# Altium schematic symbol library Stamp.SchLib: 22 symbols
Pins are listed as number, name and electrical type; pins without a type are passive.

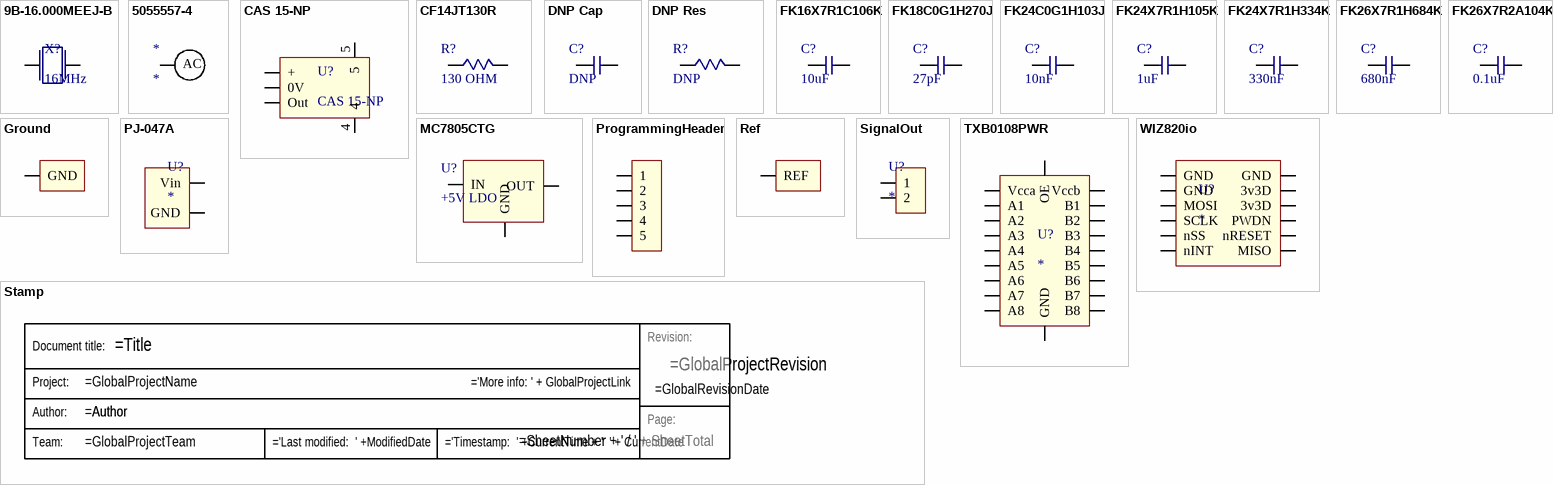
[diagram p0: symbols 9B-16.000MEEJ-B to WIZ820io]

## 9B-16.000MEEJ-B
designator X?, comment 16MHz
CRYSTAL 16MHZ 18PF THRU; Manufacturer: TXC CORPORATION; Manufacturer Part Number: 9B-16.000MEEJ-B; Frequency Stability: ±10ppm; ESR (Equivalent Series Resistance): 30 Ohm; Operating Mode: Fundamental; Supplier 1: Digi-Key; RoHS: RoHS Compliant; Category: Crystals and Oscillators; Stock 1: 1815; Pricing 1: 1=0.48, 10=0.4, 50=0.36, 100=0.32, 500=0.304, 1000=0.256, 2500=0.24, 5000=0.232, 10000=0.224 (USD); Packaging: Bulk; Type: MHz Crystal; Frequency: 16MHz; Frequency Tolerance: ±10ppm; Load Capacitance: 18pF; Operating Temperature: -20°C ~ 70°C; Ratings: -; Mounting Type: Through Hole; Package / Case: HC49/US; Size / Dimension: 0.453" L x 0.197" W (11.50mm x 5.00mm); Height: 0.145" (3.68mm); ComponentLink1URL: http://www.txccrystal.com/images/pdf/9b-accuracy.pdf; ComponentLink1Description: http://www.txccrystal.com/images/pdf/9b-accuracy.pdf; Supplier Part Number 1: 887-1244-ND
footprint 9B-16.000MEEJ-B
pins: 1, 2

## 5055557-4
designator *
POWER TAP ASSY 10POS .100 VERT; Manufacturer: TE Connectivity; Manufacturer Part Number: 5055557-4; Screw Size: 6-32; Current Rating: 25A; Material - Insulation: Polyamide (PA), Nylon; Screw Material: Steel; Supplier 1: Digi-Key; RoHS: RoHS Compliant; Category: Connectors, Interconnects; Stock 1: 1257; Pricing 1: 1=4.55, 10=4.364, 25=4.0004, 50=3.8188, 100=3.6369, 250=3.18228, 500=3.09134, 1000=2.63674, 2500=2.4549 (USD); Terminal Type: Screw Terminal, Power Tap; Termination: Press-Fit; Number of Pins: 10; Mounting Type: Through Hole; Features: Cover; Contact Finish: Tin; Contact Material: Copper Alloy; Screw Finish: -; ComponentLink1URL: http://www.te.com/commerce/DocumentDelivery/DDEController?Action=srchrtrv&DocNm=5055557&DocType=Customer+Drawing&DocLang=English; ComponentLink1Description: http://www.te.com/commerce/DocumentDelivery/DDEController?Action=srchrtrv&DocNm=5055557&DocType=Customer+Drawing&DocLang=English; Supplier Part Number 1: 5055557-4-ND
pins: 1
text: AC

## CAS 15-NP
designator U?
SENSOR CURRENT 15A 5V MOD; Manufacturer: LEM USA Inc; For Measuring: AC/DC; Sensor Type: Flux Gate, Closed Loop; Number of Channels: 1; Output: Ratiometric, Voltage; Sensitivity: 41.67mV/A; Frequency: 300kHz; Linearity: ±1%; Accuracy: ±0.8%; Voltage - Supply: 4.75 V ~ 5.25 V; Response Time: 0.3µs; Current - Supply (Max): 20mA; Polarization: Bidirectional; Supplier 1: Digi-Key; Manufacturer Part Number: CAS 15-NP; RoHS: RoHS Compliant; Category: Sensors, Transducers; Stock 1: 339; Pricing 1: 1=21.44, 5=21, 10=17.5, 25=16.1876, 50=15.75, 100=13.5625, 250=13.125, 500=12.6875, 1000=12.03125 (USD); Packaging: Tube; Current - Sensing: 15A; Operating Temperature: -40°C ~ 85°C; Mounting Type: Through Hole; Package / Case: Module; ComponentLink1URL: http://www.lem.com/docs/products/cas%20series.pdf; ComponentLink1Description: http://www.lem.com/docs/products/cas%20series.pdf; Supplier Part Number 1: 398-1088-5-ND
footprint CAS 15-NP
pins: 1 +, 2 0V, 3 Out, 4, 5

## CF14JT130R
designator R?, comment 130 OHM
RES 130 OHM 1/4W 5% CARBON FILM; Manufacturer: Stackpole Electronics Inc; Manufacturer Part Number: CF14JT130R; Resistance (Ohms): 130; Power (Watts): 0.25W, 1/4W; Temperature Coefficient: 0/ -400ppm/°C; Supplier 1: Digi-Key; RoHS: RoHS Compliant; Category: Resistors; Stock 1: 17308; Pricing 1: 1=0.1, 10=0.053, 50=0.0288, 100=0.0219, 250=0.01624, 500=0.012, 1000=0.008, 2500=0.00675 (USD); Packaging: Cut Tape (CT); Tolerance: ±5%; Composition: Carbon Film; Features: Flame Retardant Coating, Moisture Resistant; Operating Temperature: -55°C ~ 155°C; Package / Case: Axial; Supplier Device Package: Axial; Size / Dimension: 0.091" Dia x 0.256" L (2.30mm x 6.50mm); Height: -; Number of Terminations: 2; ComponentLink1URL: http://www.seielect.com/catalog/SEI-CF_CFM.pdf; ComponentLink1Description: http://www.seielect.com/catalog/SEI-CF_CFM.pdf; Supplier Part Number 1: CF14JT130RCT-ND
footprint Axial 0.5
pins: 1, 2

## DNP Cap
designator C?, comment DNP
footprint FK26/16 Capacitor
pins: 1, 2

## DNP Res
designator R?, comment DNP
footprint Axial 0.5
pins: 1, 2

## FK16X7R1C106K
designator C?, comment 10uF
CAP CER 10UF 16V 10% RADIAL; Manufacturer: TDK Corporation; Manufacturer Part Number: FK16X7R1C106K; Capacitance: 10µF; Temperature Coefficient: X7R; Supplier 1: Digi-Key; RoHS: RoHS Compliant; Category: Capacitors; Stock 1: 9327; Pricing 1: 1=0.46, 10=0.325, 100=0.2142, 250=0.18248, 500=0.15868, 1000=0.13223, 5000=0.11667, 10000=0.10889, 25000=0.105 (USD); Packaging: Bulk; Tolerance: ±10%; Voltage - Rated: 16V; Mounting Type: Through Hole; Operating Temperature: -55°C ~ 125°C; Applications: General Purpose; Ratings: -; Package / Case: Radial; Size / Dimension: 0.217" L x 0.138" W (5.50mm x 3.50mm); Height - Seated (Max): 0.236" (6.00mm); Thickness (Max): -; Lead Spacing: 0.098" (2.50mm); Features: -; Lead Style: Formed Leads - Kinked; ComponentLink1URL: http://product.tdk.com/capacitor/leadmlcc/en/documents/leadmlcc_commercial_general_en.pdf; ComponentLink1Description: http://product.tdk.com/capacitor/leadmlcc/en/documents/leadmlcc_commercial_general_en.pdf; Supplier Part Number 1: 445-8348-ND
footprint FK26/16 Capacitor
pins: 1, 2

## FK18C0G1H270J
designator C?, comment 27pF
CAP CER 27PF 50V 5% RADIAL; Manufacturer: TDK Corporation; Manufacturer Part Number: FK18C0G1H270J; Temperature Coefficient: C0G, NP0; Supplier 1: Digi-Key; RoHS: RoHS Compliant; Category: Capacitors; Stock 1: 2293; Pricing 1: 1=0.29, 10=0.2, 100=0.1133, 250=0.09, 500=0.08, 1000=0.06999, 5000=0.06166, 10000=0.05833, 25000=0.05333 (USD); Packaging: Bulk; Capacitance: 27pF; Tolerance: ±5%; Voltage - Rated: 50V; Mounting Type: Through Hole; Operating Temperature: -55°C ~ 125°C; Applications: General Purpose; Ratings: -; Package / Case: Radial; Size / Dimension: 0.157" L x 0.098" W (4.00mm x 2.50mm); Height - Seated (Max): 0.217" (5.50mm); Thickness (Max): -; Lead Spacing: 0.098" (2.50mm); Features: -; Lead Style: Formed Leads - Kinked; ComponentLink1URL: http://product.tdk.com/capacitor/leadmlcc/en/documents/leadmlcc_commercial_general_en.pdf; ComponentLink1Description: http://product.tdk.com/capacitor/leadmlcc/en/documents/leadmlcc_commercial_general_en.pdf; Supplier Part Number 1: 445-4764-ND
footprint FK18/24 Capacitor
pins: 1, 2

## FK24C0G1H103J
designator C?, comment 10nF
CAP CER 10000PF 50V 5% RADIAL; Manufacturer: TDK Corporation; Manufacturer Part Number: FK24C0G1H103J; Temperature Coefficient: C0G, NP0; Supplier 1: Digi-Key; RoHS: RoHS Compliant; Category: Capacitors; Stock 1: 37796; Pricing 1: 1=0.41, 10=0.283, 100=0.17, 250=0.14168, 500=0.12752, 1000=0.10556, 5000=0.09445, 10000=0.0889, 25000=0.08334 (USD); Packaging: Bulk; Capacitance: 10000pF; Tolerance: ±5%; Voltage - Rated: 50V; Mounting Type: Through Hole; Operating Temperature: -55°C ~ 125°C; Applications: General Purpose; Ratings: -; Package / Case: Radial; Size / Dimension: 0.217" L x 0.177" W (5.50mm x 4.50mm); Height - Seated (Max): 0.217" (5.50mm); Thickness (Max): -; Lead Spacing: 0.197" (5.00mm); Features: -; Lead Style: Formed Leads - Kinked; ComponentLink1URL: http://product.tdk.com/capacitor/leadmlcc/en/documents/leadmlcc_commercial_general_en.pdf; ComponentLink1Description: http://product.tdk.com/capacitor/leadmlcc/en/documents/leadmlcc_commercial_general_en.pdf; Supplier Part Number 1: 445-4750-ND
footprint FK18/24 Capacitor
pins: 1, 2

## FK24X7R1H105K
designator C?, comment 1uF
CAP CER 1UF 50V 10% RADIAL; Manufacturer: TDK Corporation; Manufacturer Part Number: FK24X7R1H105K; Capacitance: 1µF; Temperature Coefficient: X7R; Supplier 1: Digi-Key; RoHS: RoHS Compliant; Category: Capacitors; Stock 1: 21684; Pricing 1: 1=0.4, 10=0.278, 100=0.1667, 250=0.13892, 500=0.12502, 1000=0.10556, 5000=0.09445, 10000=0.0889, 25000=0.08334 (USD); Packaging: Bulk; Tolerance: ±10%; Voltage - Rated: 50V; Mounting Type: Through Hole; Operating Temperature: -55°C ~ 125°C; Applications: General Purpose; Ratings: -; Package / Case: Radial; Size / Dimension: 0.177" L x 0.098" W (4.50mm x 2.50mm); Height - Seated (Max): 0.217" (5.50mm); Thickness (Max): -; Lead Spacing: 0.197" (5.00mm); Features: -; Lead Style: Formed Leads - Kinked; ComponentLink1URL: http://product.tdk.com/capacitor/leadmlcc/en/documents/leadmlcc_commercial_general_en.pdf; ComponentLink1Description: http://product.tdk.com/capacitor/leadmlcc/en/documents/leadmlcc_commercial_general_en.pdf; Supplier Part Number 1: 445-8517-ND
footprint FK18/24 Capacitor
pins: 1, 2

## FK24X7R1H334K
designator C?, comment 330nF
CAP CER 0.33UF 50V 10% RADIAL; Manufacturer: TDK Corporation; Manufacturer Part Number: FK24X7R1H334K; Capacitance: 0.33µF; Temperature Coefficient: X7R; Supplier 1: Digi-Key; RoHS: RoHS Compliant; Category: Capacitors; Stock 1: 7845; Pricing 1: 1=0.32, 10=0.222, 100=0.1333, 250=0.11112, 500=0.1, 1000=0.08444, 5000=0.07555, 10000=0.0711, 25000=0.06666 (USD); Packaging: Bulk; Tolerance: ±10%; Voltage - Rated: 50V; Mounting Type: Through Hole; Operating Temperature: -55°C ~ 125°C; Applications: General Purpose; Ratings: -; Package / Case: Radial; Size / Dimension: 0.217" L x 0.177" W (5.50mm x 4.50mm); Height - Seated (Max): 0.217" (5.50mm); Thickness (Max): -; Lead Spacing: 0.197" (5.00mm); Features: -; Lead Style: Formed Leads - Kinked; ComponentLink1URL: http://product.tdk.com/capacitor/leadmlcc/en/documents/leadmlcc_commercial_general_en.pdf; ComponentLink1Description: http://product.tdk.com/capacitor/leadmlcc/en/documents/leadmlcc_commercial_general_en.pdf; Supplier Part Number 1: 445-5263-ND
footprint FK18/24 Capacitor
pins: 1, 2

## FK26X7R1H684K
designator C?, comment 680nF
CAP CER 0.68UF 50V 10% RADIAL; Manufacturer: TDK Corporation; Manufacturer Part Number: FK26X7R1H684K; Capacitance: 0.68µF; Temperature Coefficient: X7R; Supplier 1: Digi-Key; RoHS: RoHS Compliant; Category: Capacitors; Stock 1: 1174; Pricing 1: 1=0.45, 10=0.312, 100=0.187, 250=0.15584, 500=0.14024, 1000=0.11611, 5000=0.10389, 10000=0.09778, 25000=0.09167 (USD); Packaging: Bulk; Tolerance: ±10%; Voltage - Rated: 50V; Mounting Type: Through Hole; Operating Temperature: -55°C ~ 125°C; Applications: General Purpose; Ratings: -; Package / Case: Radial; Size / Dimension: 0.217" L x 0.138" W (5.50mm x 3.50mm); Height - Seated (Max): 0.236" (6.00mm); Thickness (Max): -; Lead Spacing: 0.197" (5.00mm); Features: -; Lead Style: Formed Leads - Kinked; ComponentLink1URL: http://product.tdk.com/capacitor/leadmlcc/en/documents/leadmlcc_commercial_general_en.pdf; ComponentLink1Description: http://product.tdk.com/capacitor/leadmlcc/en/documents/leadmlcc_commercial_general_en.pdf; Supplier Part Number 1: 445-8560-ND
footprint FK26/16 Capacitor
pins: 1, 2

## FK26X7R2A104K
designator C?, comment 0.1uF
CAP CER 0.1UF 100V 10% RADIAL; Manufacturer: TDK Corporation; Manufacturer Part Number: FK26X7R2A104K; Capacitance: 0.1µF; Temperature Coefficient: X7R; Supplier 1: Digi-Key; RoHS: RoHS Compliant; Category: Capacitors; Stock 1: 28932; Pricing 1: 1=0.44, 10=0.306, 100=0.1833, 250=0.15276, 500=0.1375, 1000=0.11611, 5000=0.10389, 10000=0.09778, 25000=0.09167 (USD); Packaging: Bulk; Tolerance: ±10%; Voltage - Rated: 100V; Mounting Type: Through Hole; Operating Temperature: -55°C ~ 125°C; Applications: General Purpose; Ratings: -; Package / Case: Radial; Size / Dimension: 0.217" L x 0.138" W (5.50mm x 3.50mm); Height - Seated (Max): 0.236" (6.00mm); Thickness (Max): -; Lead Spacing: 0.197" (5.00mm); Features: -; Lead Style: Formed Leads - Kinked; ComponentLink1URL: http://product.tdk.com/capacitor/leadmlcc/en/documents/leadmlcc_commercial_midvoltage_en.pdf; ComponentLink1Description: http://product.tdk.com/capacitor/leadmlcc/en/documents/leadmlcc_commercial_midvoltage_en.pdf; Supplier Part Number 1: 445-2634-ND
footprint FK26/16 Capacitor
pins: 1, 2

## Ground
designator U?  (value not drawn)
footprint Ground
pins: 1 GND

## MC7805CTG
designator U?, comment +5V LDO
IC REG LDO 5V 1A TO220AB; Manufacturer: ON Semiconductor; Manufacturer Part Number: MC7805CTG; Regulator Topology: Positive Fixed; Voltage - Dropout (Typical): 2V @ 1A; Number of Regulators: 1; Voltage - Input: Up to 35V; Supplier 1: Digi-Key; RoHS: RoHS Compliant; Category: Integrated Circuits (ICs); Stock 1: 2903; Pricing 1: 1=0.49, 10=0.414, 25=0.3624, 100=0.3105, 250=0.26912, 500=0.2277, 1000=0.17595, 2500=0.16042, 5000=0.15008 (USD); Packaging: Tube; Voltage - Output: 5V; Current - Output: 1A; Current - Limit (Min): -; Operating Temperature: 0°C ~ 125°C; Mounting Type: Through Hole; Package / Case: TO-220-3; Supplier Device Package: TO-220AB; ComponentLink1URL: http://www.onsemi.com/pub_link/Collateral/MC7800-D.PDF; ComponentLink1Description: http://www.onsemi.com/pub_link/Collateral/MC7800-D.PDF; Supplier Part Number 1: MC7805CTGOS-ND
footprint MC7805CTG
pins: 1 IN, 2 GND, 3 OUT

## PJ-047A
designator U?
CON PWR JCK 2.0 X 6.0MM W/SHLD; Manufacturer: CUI Inc; Manufacturer Part Number: PJ-047A; Connector Type: Jack; Gender: Male; Plug/Mating Plug Diameter: 2.1mm ID, 5.5mm OD; Number of Positions/Contacts: 2 Conductors, 3 Contacts; Internal Switch(s): Single Switch, Normally Closed; Shielding: Shielded; Voltage - Rated: 16VDC; Current Rating: 2.5A; Supplier 1: Digi-Key; RoHS: RoHS Compliant; Category: Connectors, Interconnects; Stock 1: 7767; Pricing 1: 1=0.97, 10=0.752, 100=0.5738, 500=0.459, 1000=0.408, 2500=0.33915 (USD); Mounting Type: Through Hole, Right Angle; Termination: Solder; Features: Board Guide; Color: Black; Contact Material: Brass; Contact Material - Plating: Nickel; Housing Color: Black; Housing Material: Thermoplastic; Operating Temperature: -25°C ~ 85°C; ComponentLink1URL: http://www.cui.com/product/resource/digikeypdf/pj-047a.pdf; ComponentLink1Description: http://www.cui.com/product/resource/digikeypdf/pj-047a.pdf; Supplier Part Number 1: CP-047A-ND
footprint PJ-047A
pins: 1 Vin, 2 GND

## ProgrammingHeader
designator U?  (value not drawn)
footprint ProgrammingHeader
pins: 1, 2, 3, 4, 5

## Ref
designator U?  (value not drawn)
footprint Ground
pins: 1 REF

## SignalOut
designator U?
footprint SignalOut
pins: 1, 2

## Stamp
designator Stamp  (value not drawn)  (graphical)
text: Revision:; Document title:; Project:; Author:; Page:; Team:

## TXB0108PWR
designator U?
IC 8-BIT TRNSTR 15KV ESD 20TSSOP; Manufacturer: Texas Instruments; Manufacturer Part Number: TXB0108PWR; Logic Function: Translator, Bidirectional; Number of Bits: 8; Input Type: Logic; Data Rate: 100Mbps; Number of Outputs/Channel: 1; Differential - Input:Output: No/No; Propagation Delay (Max): 4ns; Voltage - Supply: 1.2 V ~ 3.6 V, 1.65 V ~ 5.5 V; Supplier 1: Digi-Key; RoHS: RoHS Compliant; Category: Integrated Circuits (ICs); Stock 1: 13276; Pricing 1: 1=2.3, 10=2.074, 25=1.8576, 100=1.6704, 250=1.4832, 500=1.296, 750=1.1736, 1000=0.9 (USD); Packaging: Cut Tape (CT); Output Type: Logic; Number of Channels: 8; Operating Temperature: -40°C ~ 85°C; Package / Case: 20-TSSOP (0.173", 4.40mm Width); Supplier Device Package: 20-TSSOP; Mounting Type: Surface Mount; ComponentLink1URL: http://www.ti.com/lit/ds/symlink/txb0108.pdf; ComponentLink1Description: http://www.ti.com/lit/ds/symlink/txb0108.pdf; Supplier Part Number 1: 296-21527-1-ND
footprint TSOP65P640X120-20N (TSOP, 20-Leads, Body 6.50x4.40mm, Pitch 0.65mm, IPC Medium Density)
pins: 1 A1, 2 Vcca, 3 A2, 4 A3, 5 A4, 6 A5, 7 A6, 8 A7, 9 A8, 10 OE, 11 GND, 12 B8, 13 B7, 14 B6, 15 B5, 16 B4, 17 B3, 18 B2, 19 Vccb, 20 B1

## WIZ820io
designator U?
Ethernet Modules W5200 & MAG JACK ioPLATFORM MODULE; Manufacturer: WIZnet; Manufacturer Part Number: WIZ820io; Description/Function: Plug-in network module; Interface Type: SPI; Number of Ports: 1 Ethernet; Operating Supply Voltage: 3.3 V; Supplier 1: Mouser; RoHS: RoHS Compliant; Category: Ethernet Modules; Stock 1: 175; Pricing 1: 1=28.07, 50=26.85, 100=26.11, 250=25.41 (AUD); Dimensions: 23 mm x 25 mm; Processor Type: W5200; Product: Serial to Ethernet Modules; Brand: WIZnet; Maximum Operating Temperature: + 85 C; Minimum Operating Temperature: - 40 C; RoHS - Mouser: Y; Minimum Order Quantity: 1; Reeling: False; ComponentLink1URL: http://www.mouser.com/ds/2/443/WIZ820io_User_Manual_V1.0-268459.pdf; ComponentLink1Description: http://www.mouser.com/ds/2/443/WIZ820io_User_Manual_V1.0-268459.pdf; Supplier Part Number 1: 950-WIZ820IO
footprint WIZ5200
pins: 1 GND, 2 GND, 3 MOSI, 4 SCLK, 5 nSS, 6 nINT, 7 MISO, 8 nRESET, 9 PWDN, 10 3v3D, 11 3v3D, 12 GND